# Altium schematic symbol library DF9-41S-1V_32.SchLib: 1 symbol
Pins are listed as number, name and electrical type; pins without a type are passive.

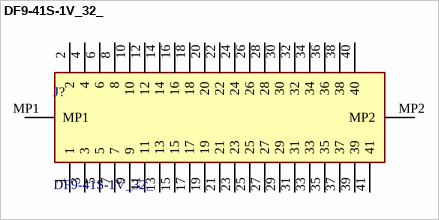
[diagram p0: symbol DF9-41S-1V_32_]

## DF9-41S-1V_32_
designator J?
Hirose DF9 Series 1mm 41 Way 2 Row Straight PCB Socket Surface Mount Board to Board; Manufacturer_Part_Number: DF9-41S-1V(32); Geometry.Height: 3.5mm; Manufacturer_Name: Hirose; Mouser Part Number: 798-DF9-41S-1V32; Mouser Price/Stock: https://www.mouser.co.uk/ProductDetail/Hirose-Connector/DF9-41S-1V32?qs=zOgoZG1CgI9v0f1Yz7n0tQ%3D%3D; Arrow Part Number: DF9-41S-1V(32); Arrow Price/Stock: https://www.arrow.com/en/products/df9-41s-1v-32/hirose-electric; Datasheet Link: https://www.hirose.com/product/document?clcode=CL0540-0213-1-32&productname=DF9-41S-1V(32)&series=DF9&documenttype=2DDrawing&lang=en&documentid=0001002043
footprint DF941S1V32
pins: 1, 2, 3, 4, 5, 6, 7, 8, 9, 10, 11, 12, 13, 14, 15, 16, 17, 18, 19, 20, 21, 22, 23, 24, 25, 26, 27, 28, 29, 30, 31, 32, 33, 34, 35, 36, 37, 38, 39, 40, 41, MP1, MP2